# Altium schematic symbol library CP2102.SchLib: 1 symbol
Pins are listed as number, name and electrical type; pins without a type are passive.

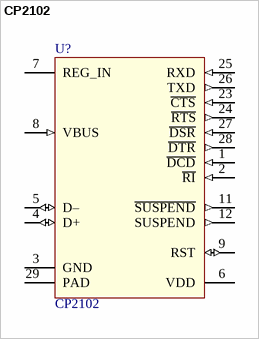
[diagram p0: symbol CP2102]

## CP2102
designator U?
SINGLE-CHIP USB-TO-UART BRIDGE; value: CP2102-GMR
footprint QFN-28-4x4 (28-Pin Plastic Quad Flat No-Lead 0.5 mm Pitch, IPC Low Density)
pins: 1 ~{DCD} (in), 2 ~{RI} (in), 3 GND (power), 4 D+ (io), 5 D– (io), 6 VDD (power), 7 REG_IN (power), 8 VBUS (in), 9 RST (io), 11 ~{SUSPEND} (out), 12 SUSPEND (out), 23 ~{CTS} (in), 24 ~{RTS} (out), 25 RXD (in), 26 TXD (out), 27 ~{DSR} (in), 28 ~{DTR} (out), 29 PAD